# Altium footprint library IC_Texas_Instruments_SN74HC125PWR_eec_MFG.PcbLib: 1 footprints
Each footprint in its own frame and in the unit in brackets; x right, y up, seen from the top. Pads: shape width x height; smd on the part's side, far side on the other; paste and mask are expansions set on the pad; w line width, h text height; cw(c..) or ccw(c..) is an arc to the next point about the centre after c.
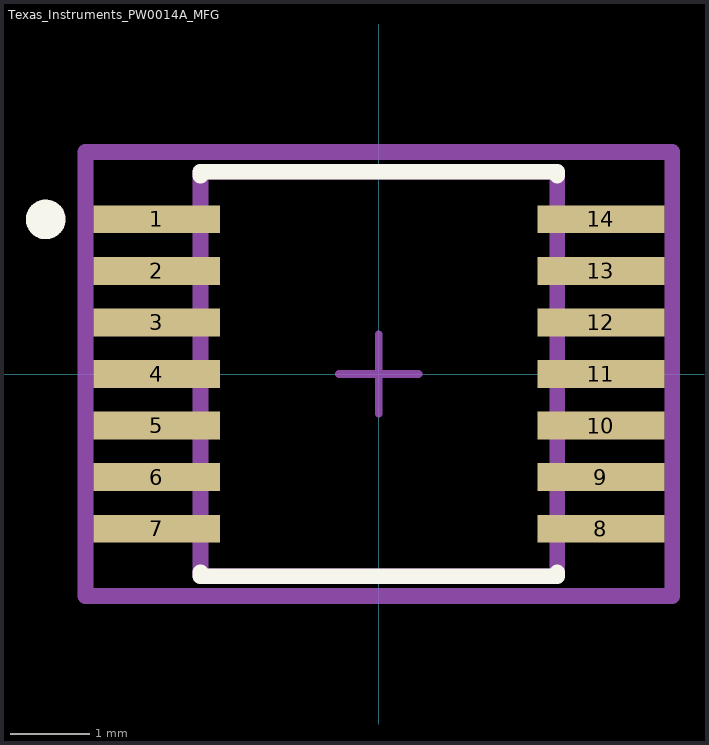
[diagram p0: the footprint, top view; thin cyan lines are the x and y axes]

## Texas_Instruments_PW0014A_MFG [mm]
pads (14):
  rect 1.6x0.35 smd paste-1000 mask+0: 1(-2.8,1.95) 2(-2.8,1.3) 3(-2.8,0.65) 4(-2.8,0) 5(-2.8,-0.65) 6(-2.8,-1.3) 7(-2.8,-1.95) 8(2.8,-1.95) 9(2.8,-1.3) 10(2.8,-0.65) 11(2.8,0) 12(2.8,0.65) 13(2.8,1.3) 14(2.8,1.95)
Top Overlay:
  circle w0.25: c-4.2,1.95 r0.125
  lines w0.2: -2.25,-2.5 -2.25,-2.55 2.25,-2.55 2.25,-2.5 ; -2.25,2.5 -2.25,2.55 2.25,2.55 2.25,2.5
Top Paste:
  rectangle: 2.025,1.8 3.575,2.1
  rectangle: 2.025,1.15 3.575,1.45
  rectangle: 2.025,0.5 3.575,0.8
  rectangle: 2.025,-0.15 3.575,0.15
  rectangle: 2.025,-0.8 3.575,-0.5
  rectangle: 2.025,-1.45 3.575,-1.15
  rectangle: 2.025,-2.1 3.575,-1.8
  rectangle: -3.575,1.8 -2.025,2.1
  rectangle: -3.575,1.15 -2.025,1.45
  rectangle: -3.575,0.5 -2.025,0.8
  rectangle: -3.575,-0.15 -2.025,0.15
  rectangle: -3.575,-0.8 -2.025,-0.5
  rectangle: -3.575,-1.45 -2.025,-1.15
  rectangle: -3.575,-2.1 -2.025,-1.8
Mechanical 10:
  lines w0.2: -3.7,-2.8 3.7,-2.8 3.7,2.8 -3.7,2.8 -3.7,-2.8
  text ".Designator" at 0,0.188 h1
Mechanical 12:
  lines w0.2: -2.25,-2.55 2.25,-2.55 2.25,2.55 -2.25,2.55 -2.25,-2.55
Mechanical 15:
  lines w0.1: -0.5,0 0.5,0 ; 0,-0.5 0,0.5
  lines w0.2: -3.7,-2.8 3.7,-2.8 3.7,2.8 -3.7,2.8 -3.7,-2.8
3D body "IC_Texas_Instruments_SN74HC125PWR_eec.STEP": height 0.25, standoff 0, extent -3.7,-2.8 3.7,2.8